# Altium schematic symbol library MCP2221A-I_SL.SchLib: 1 symbol
Pins are listed as number, name and electrical type; pins without a type are passive.

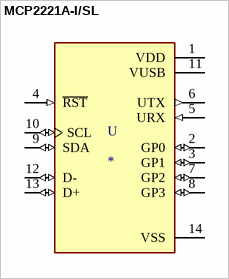
[diagram p0: symbol MCP2221A-I/SL]

## MCP2221A-I/SL
designator U
USB Bridge, USB to IÂ²C/UART USB 2.0 IÂ²C, UART Interface 14-SOIC; MP: MCP2221A-I/SL; MF: Microchip; Value: *; Package: SO-14 Microchip; Price: None; SnapEDA_Link: https://www.snapeda.com/parts/MCP2221A-I/SL/Microchip/view-part/561316/?ref=snap; Availability: Unavailable
footprint SOIC127P600X175-14N
pins: 1 VDD (power), 2 GP0 (io), 3 GP1 (io), 4 ~{RST} (in), 5 URX (in), 6 UTX (out), 7 GP2 (io), 8 GP3 (io), 9 SDA (io), 10 SCL (io), 11 VUSB (power), 12 D- (io), 13 D+ (io), 14 VSS (power)